# Altium footprint library microsd_ruichi.PcbLib: 2 footprints
Each footprint in its own frame and in the unit in brackets; x right, y up, seen from the top. Pads: shape width x height; smd on the part's side, far side on the other; paste and mask are expansions set on the pad; w line width, h text height; cw(c..) or ccw(c..) is an arc to the next point about the centre after c.
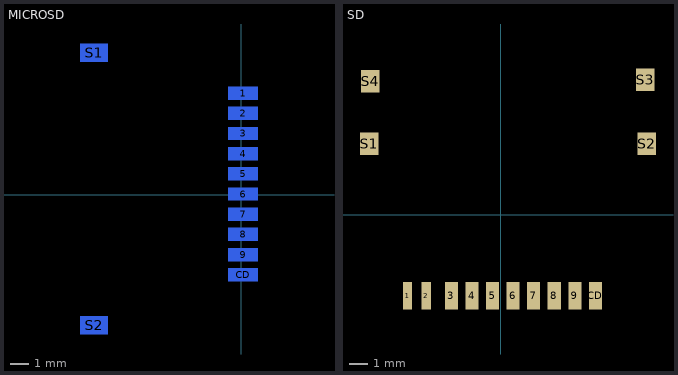
[diagram p0: the footprints below, top view; thin cyan lines are the x and y axes]

## MICROSD [mm]
pads (12):
  rect 1.6x0.7 smd far side: 1(0.099,5.544) 2(0.099,4.444) 3(0.099,3.344) 4(0.099,2.244) 5(0.099,1.144) 6(0.099,0.044) 7(0.099,-1.056) 8(0.099,-2.156) 9(0.099,-3.256) CD(0.099,-4.356)
  rect 1.5x1 smd far side: S1(-8.026,7.744) S2(-8.026,-7.106)

## SD [mm]
pads (14):
  rect 0.5x1.47 smd: 1(-5,-4.325) 2(-4,-4.325)
  rect 0.7x1.47 smd: 3(-2.65,-4.325) 4(-1.55,-4.325) 5(-0.45,-4.325) 6(0.65,-4.325) 7(1.75,-4.325) 8(2.85,-4.325) 9(3.95,-4.325) CD(5.05,-4.325)
  rect 0.98x1.2 smd: S1(-7.05,3.8) S2(7.8,3.8) S3(7.725,7.225) S4(-7,7.15)